# EAGLE library part NCP3063_SO08 (library power_convertors)
1.5 A, Step-Up/Down/ Inverting Switching Regulators - SC _ Switch Collector - SE _ Switch Emitor - TC _ Timing Capacitor - GND _ GROUND - IPS _ Current peak sense - VCC _ Supply voltage (+) - CII _ Comparator Inverting Input Features > Operation to 40 V Input > Low Standby Current > Output Switch Current to 1.5 A > Output Voltage Adjustable > Frequency Operation of 150 kHz > Precision 1.5% Reference > New Features: Internal Thermal Shutdown with Hysteresis New Features: Cycle?by?Cycle Current Limiting > Pb?Free Packages are Available Applications > Step?Down, Step?Up and Inverting supply applications > High Power LED Lighting > Battery Chargers
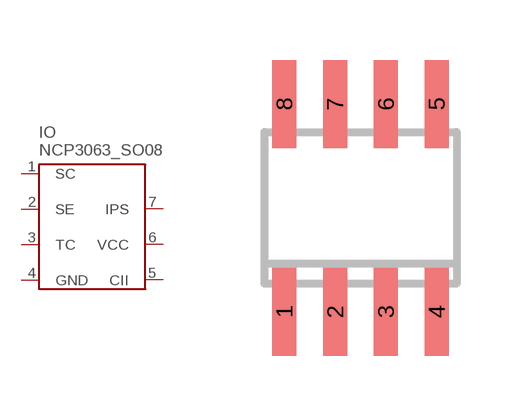
[diagram p4: symbol with the pads of SO-08; footprint SO-08]

Designator prefix IO

## NCP3063_SO08  [SO-08]
1  SC
2  SE
3  TC
4  GND
5  CII
6  VCC
7  IPS

## Footprint SO-08 (pad centres in mm)
Small Outline Narrow Plastic Gull Wing 150-mil body, package type SN
smd 0.6 x 2.2: 1 -1.905,-2.6; 2 -0.635,-2.6; 3 0.635,-2.6; 4 1.905,-2.6; 5 1.905,2.6; 6 0.635,2.6; 7 -0.635,2.6; 8 -1.905,2.6